# Altium footprint library MLACHP_P.PCBLIB: 129 footprints (part 7 of 9)
Each footprint in its own frame and in the unit in brackets; x right, y up, seen from the top. Pads: shape width x height; smd on the part's side, far side on the other; paste and mask are expansions set on the pad; w line width, h text height; cw(c..) or ccw(c..) is an arc to the next point about the centre after c.
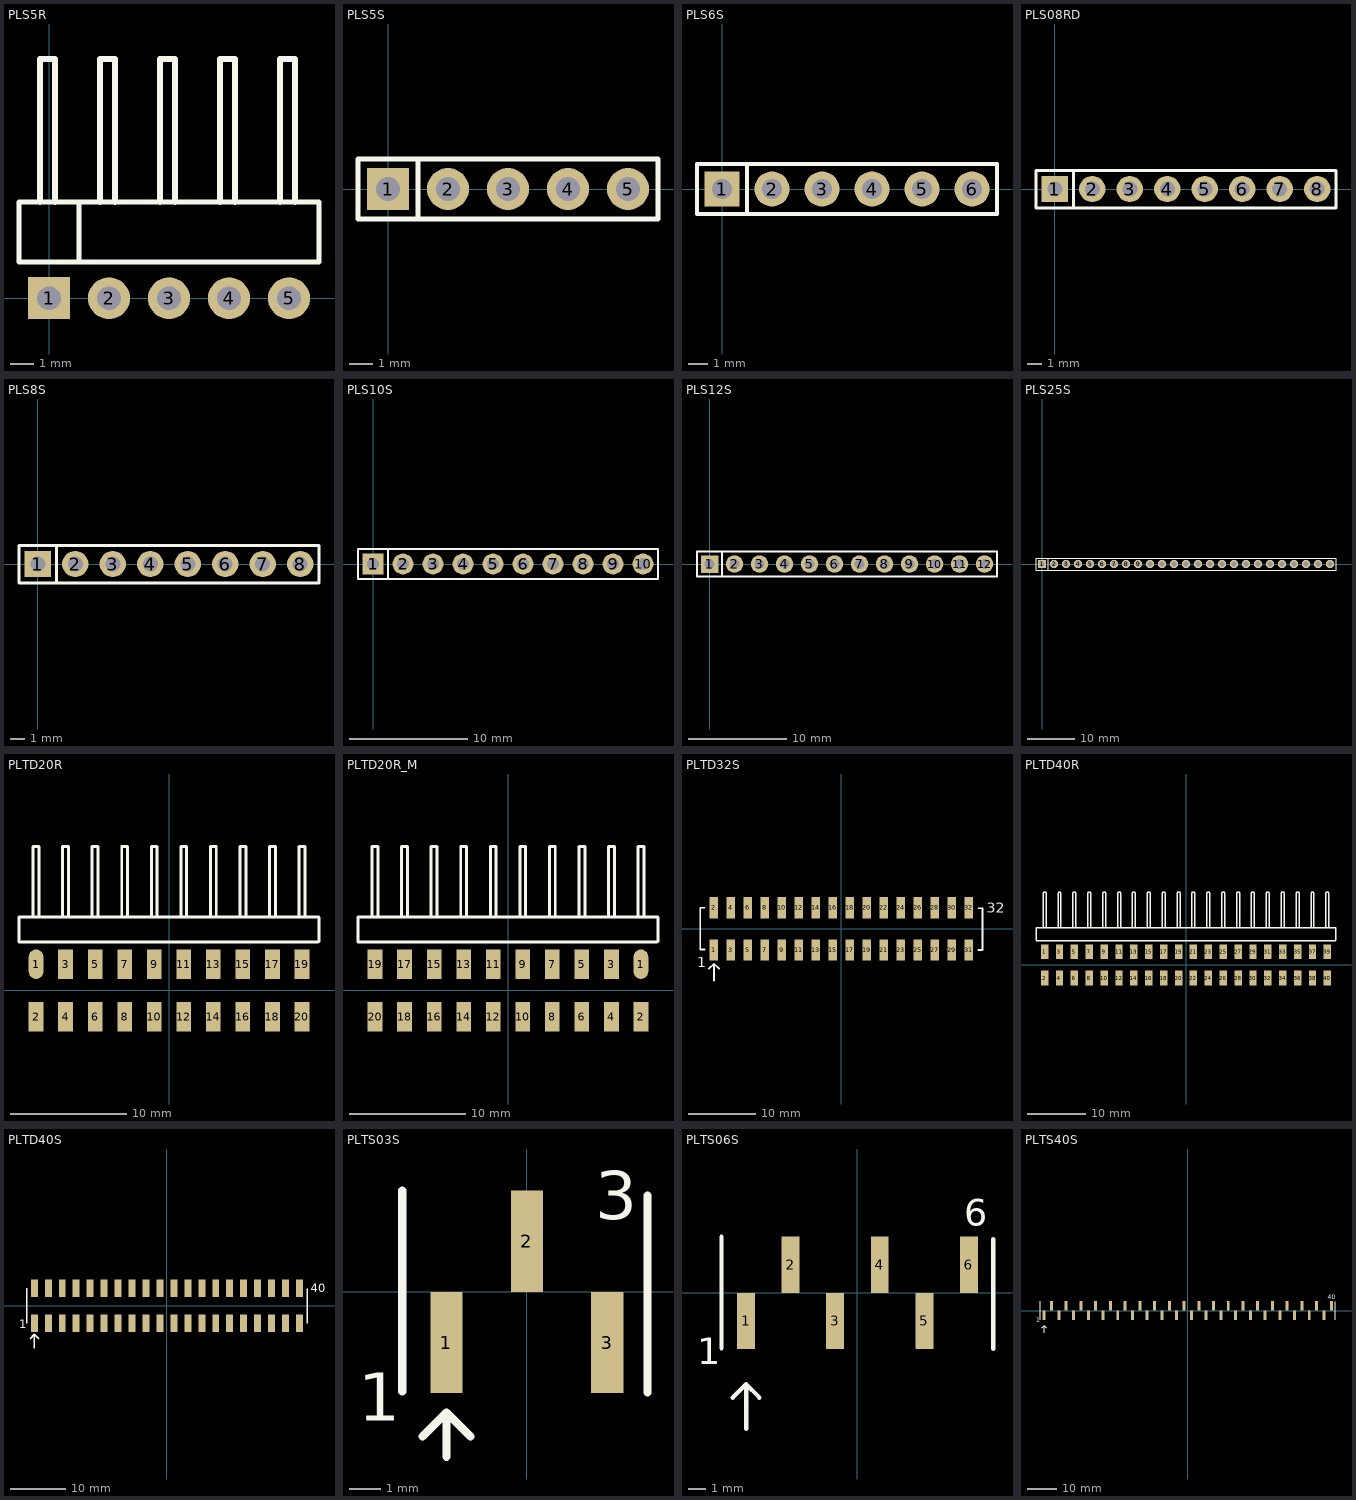
[diagram p6: the footprints below, top view; thin cyan lines are the x and y axes]

## PLS5R [mil]
pads (5):
  rect 70x70 hole 39.37: 1(0,0)
  round 70 hole 39.37: 2(100,0) 3(200,0) 4(300,0) 5(400,0)
TopOverlay:
  lines w8: 50,60.24 50,160.24 ; -50,60.24 450,60.24 450,160.24 -50,160.24 -50,60.24
  lines w9.84: -15,160.24 -15,398.94 10,398.94 10,160.24 ; 85,160.24 85,398.94 110,398.94 110,160.24 ; 185,160.24 185,398.94 210,398.94 210,160.24 ; 285,160.24 285,398.94 310,398.94 310,160.24 ; 385,160.24 385,398.94 410,398.94 410,160.24
3D body: height 61.81, standoff -118.11, extent 387.4,-12.6 412.6,12.6
3D body: height 61.81, standoff 36.61, extent 387.4,-12.6 412.6,395.28
3D body: height 61.81, standoff -118.11, extent 287.4,-12.6 312.6,12.6
3D body: height 61.81, standoff 36.61, extent 287.4,-12.6 312.6,395.28
3D body: height 61.81, standoff 36.61, extent -12.6,-12.6 12.6,395.28
3D body: height 98.43, standoff 0, extent -50,59.06 450,159.45
3D body: height 61.81, standoff -118.11, extent -12.6,-12.6 12.6,12.6
3D body: height 61.81, standoff -118.11, extent 87.4,-12.6 112.6,12.6
3D body: height 61.81, standoff 36.61, extent 87.4,-12.6 112.6,395.28
3D body: height 61.81, standoff -118.11, extent 187.4,-12.6 212.6,12.6
3D body: height 61.81, standoff 36.61, extent 187.4,-12.6 212.6,395.28

## PLS5S [mil]
pads (5):
  rect 70x70 hole 40: 1(0,0)
  round 70 hole 40: 2(100,0) 3(200,0) 4(300,0) 5(400,0)
TopOverlay:
  lines w8: 50,-50 50,50 ; -50,-50 450,-50 450,50 -50,50 -50,-50
3D body: height 336.22, standoff -118.11, extent 387.4,-12.6 412.6,12.6
3D body: height 336.22, standoff -118.11, extent 287.4,-12.6 312.6,12.6
3D body: height 336.22, standoff -118.11, extent 187.4,-12.6 212.6,12.6
3D body: height 336.22, standoff -118.11, extent 87.4,-12.6 112.6,12.6
3D body: height 336.22, standoff -118.11, extent -12.6,-12.6 12.6,12.6
3D body: height 100, standoff 0, extent -50,-50 450,50

## PLS6S [mil]
pads (6):
  rect 70x70 hole 40: 1(0,0)
  round 70 hole 40: 2(100,0) 3(200,0) 4(300,0) 5(400,0) 6(500,0)
TopOverlay:
  lines w8: 50,-50 50,50 ; -50,-50 550,-50 550,50 -50,50 -50,-50
3D body: height 336.22, standoff -118.11, extent 387.4,-12.6 412.6,12.6
3D body: height 336.22, standoff -118.11, extent 287.4,-12.6 312.6,12.6
3D body: height 336.22, standoff -118.11, extent 187.4,-12.6 212.6,12.6
3D body: height 336.22, standoff -118.11, extent 87.4,-12.6 112.6,12.6
3D body: height 336.22, standoff -118.11, extent -12.6,-12.6 12.6,12.6
3D body: height 336.22, standoff -118.11, extent 487.4,-12.6 512.6,12.6
3D body: height 100, standoff 0, extent -50,-50 550,50

## PLS08RD [mil]
pads (8):
  rect 70x70 hole 40: 1(0,0)
  round 70 hole 40: 2(100,0) 3(200,0) 4(300,0) 5(400,0) 6(500,0) 7(600,0) 8(700,0)
TopOverlay:
  lines w8: 50,-50 50,50 ; -50,-50 -50,50 750,50 750,-50 -50,-50
3D body: height 61.81, standoff 36.61, extent 687.4,-12.6 712.6,395.28
3D body: height 61.81, standoff -118.11, extent 687.4,-12.6 712.6,12.6
3D body: height 61.81, standoff 36.61, extent 587.4,-12.6 612.6,395.28
3D body: height 61.81, standoff -118.11, extent 587.4,-12.6 612.6,12.6
3D body: height 61.81, standoff 36.61, extent 487.4,-12.6 512.6,395.28
3D body: height 61.81, standoff -118.11, extent 487.4,-12.6 512.6,12.6
3D body: height 61.81, standoff 36.61, extent 387.4,-12.6 412.6,395.28
3D body: height 61.81, standoff -118.11, extent 387.4,-12.6 412.6,12.6
3D body: height 61.81, standoff 36.61, extent 287.4,-12.6 312.6,395.28
3D body: height 61.81, standoff -118.11, extent 287.4,-12.6 312.6,12.6
3D body: height 61.81, standoff 36.61, extent 187.4,-12.6 212.6,395.28
3D body: height 61.81, standoff -118.11, extent 187.4,-12.6 212.6,12.6
3D body: height 61.81, standoff 36.61, extent 87.4,-12.6 112.6,395.28
3D body: height 61.81, standoff -118.11, extent 87.4,-12.6 112.6,12.6
3D body: height 61.81, standoff -118.11, extent -12.6,-12.6 12.6,12.6
3D body: height 98.43, standoff 0, extent -50,59.06 750,159.45
3D body: height 61.81, standoff 36.61, extent -12.6,-12.6 12.6,395.28

## PLS8S [mil]
pads (8):
  rect 70x70 hole 40: 1(0,0)
  round 70 hole 40: 2(100,0) 3(200,0) 4(300,0) 5(400,0) 6(500,0) 7(600,0) 8(700,0)
TopOverlay:
  lines w8: 50,-50 50,50 ; -50,-50 750,-50 750,50 -50,50 -50,-50
3D body: height 336.22, standoff -118.11, extent 387.4,-12.6 412.6,12.6
3D body: height 336.22, standoff -118.11, extent 287.4,-12.6 312.6,12.6
3D body: height 336.22, standoff -118.11, extent 187.4,-12.6 212.6,12.6
3D body: height 336.22, standoff -118.11, extent 87.4,-12.6 112.6,12.6
3D body: height 336.22, standoff -118.11, extent -12.6,-12.6 12.6,12.6
3D body: height 100, standoff 0, extent -50,-50 750,50
3D body: height 336.22, standoff -118.11, extent 487.4,-12.6 512.6,12.6
3D body: height 336.22, standoff -118.11, extent 587.4,-12.6 612.6,12.6
3D body: height 336.22, standoff -118.11, extent 687.4,-12.6 712.6,12.6

## PLS10S [mil]
pads (10):
  rect 70x70 hole 40: 1(0,0)
  round 70 hole 40: 2(100,0) 3(200,0) 4(300,0) 5(400,0) 6(500,0) 7(600,0) 8(700,0) 9(800,0) 10(900,0)
TopOverlay:
  lines w8: 50,-50 50,50 ; -50,-50 950,-50 950,50 -50,50 -50,-50
3D body: height 336.22, standoff -118.11, extent 387.4,-12.6 412.6,12.6
3D body: height 336.22, standoff -118.11, extent 287.4,-12.6 312.6,12.6
3D body: height 336.22, standoff -118.11, extent 187.4,-12.6 212.6,12.6
3D body: height 336.22, standoff -118.11, extent 87.4,-12.6 112.6,12.6
3D body: height 336.22, standoff -118.11, extent -12.6,-12.6 12.6,12.6
3D body: height 336.22, standoff -118.11, extent 487.4,-12.6 512.6,12.6
3D body: height 336.22, standoff -118.11, extent 587.4,-12.6 612.6,12.6
3D body: height 336.22, standoff -118.11, extent 687.4,-12.6 712.6,12.6
3D body: height 336.22, standoff -118.11, extent 787.4,-12.6 812.6,12.6
3D body: height 336.22, standoff -118.11, extent 887.4,-12.6 912.6,12.6
3D body: height 100, standoff 0, extent -50,-50 950,50

## PLS12S [mil]
pads (12):
  rect 70x70 hole 40: 1(0,0)
  round 70 hole 40: 2(100,0) 3(200,0) 4(300,0) 5(400,0) 6(500,0) 7(600,0) 8(700,0) 9(800,0) 10(900,0) 11(1000,0) 12(1100,0)
TopOverlay:
  lines w8: 50,-50 50,50 ; -50,-50 1150,-50 1150,50 -50,50 -50,-50
3D body: height 336.22, standoff -118.11, extent 387.4,-12.6 412.6,12.6
3D body: height 336.22, standoff -118.11, extent 287.4,-12.6 312.6,12.6
3D body: height 336.22, standoff -118.11, extent 187.4,-12.6 212.6,12.6
3D body: height 336.22, standoff -118.11, extent 87.4,-12.6 112.6,12.6
3D body: height 336.22, standoff -118.11, extent -12.6,-12.6 12.6,12.6
3D body: height 336.22, standoff -118.11, extent 487.4,-12.6 512.6,12.6
3D body: height 336.22, standoff -118.11, extent 587.4,-12.6 612.6,12.6
3D body: height 336.22, standoff -118.11, extent 687.4,-12.6 712.6,12.6
3D body: height 336.22, standoff -118.11, extent 787.4,-12.6 812.6,12.6
3D body: height 336.22, standoff -118.11, extent 887.4,-12.6 912.6,12.6
3D body: height 336.22, standoff -118.11, extent 987.4,-12.6 1012.6,12.6
3D body: height 336.22, standoff -118.11, extent 1087.4,-12.6 1112.6,12.6
3D body: height 100, standoff 0, extent -50,-50 1150,50

## PLS25S [mil]
pads (25):
  rect 70x70 hole 40: 1(0,0)
  round 70 hole 40: 2(100,0) 3(200,0) 4(300,0) 5(400,0) 6(500,0) 7(600,0) 8(700,0) 9(800,0) 10(900,0) 11(1000,0) 12(1100,0) 13(1200,0) 14(1300,0) 15(1400,0) 16(1500,0) 17(1600,0) 18(1700,0) 19(1800,0) 20(1900,0) 21(2000,0) 22(2100,0) 23(2200,0) 24(2300,0) 25(2400,0)
TopOverlay:
  lines w8: 50,-50 50,50 ; -50,-50 2450,-50 2450,50 -50,50 -50,-50
3D body: height 336.22, standoff -118.11, extent 387.4,-12.6 412.6,12.6
3D body: height 336.22, standoff -118.11, extent 287.4,-12.6 312.6,12.6
3D body: height 336.22, standoff -118.11, extent 187.4,-12.6 212.6,12.6
3D body: height 336.22, standoff -118.11, extent 87.4,-12.6 112.6,12.6
3D body: height 336.22, standoff -118.11, extent -12.6,-12.6 12.6,12.6
3D body: height 336.22, standoff -118.11, extent 487.4,-12.6 512.6,12.6
3D body: height 336.22, standoff -118.11, extent 587.4,-12.6 612.6,12.6
3D body: height 336.22, standoff -118.11, extent 687.4,-12.6 712.6,12.6
3D body: height 336.22, standoff -118.11, extent 787.4,-12.6 812.6,12.6
3D body: height 336.22, standoff -118.11, extent 887.4,-12.6 912.6,12.6
3D body: height 336.22, standoff -118.11, extent 987.4,-12.6 1012.6,12.6
3D body: height 336.22, standoff -118.11, extent 1087.4,-12.6 1112.6,12.6
3D body: height 336.22, standoff -118.11, extent 1187.4,-12.6 1212.6,12.6
3D body: height 336.22, standoff -118.11, extent 1287.4,-12.6 1312.6,12.6
3D body: height 336.22, standoff -118.11, extent 1387.4,-12.6 1412.6,12.6
3D body: height 336.22, standoff -118.11, extent 1487.4,-12.6 1512.6,12.6
3D body: height 336.22, standoff -118.11, extent 1587.4,-12.6 1612.6,12.6
3D body: height 336.22, standoff -118.11, extent 1687.4,-12.6 1712.6,12.6
3D body: height 336.22, standoff -118.11, extent 1787.4,-12.6 1812.6,12.6
3D body: height 336.22, standoff -118.11, extent 1887.4,-12.6 1912.6,12.6
3D body: height 336.22, standoff -118.11, extent 1987.4,-12.6 2012.6,12.6
3D body: height 336.22, standoff -118.11, extent 2087.4,-12.6 2112.6,12.6
3D body: height 336.22, standoff -118.11, extent 2187.4,-12.6 2212.6,12.6
3D body: height 336.22, standoff -118.11, extent 2287.4,-12.6 2312.6,12.6
3D body: height 336.22, standoff -118.11, extent 2387.4,-12.6 2412.6,12.6
3D body: height 100, standoff 0, extent -50,-50 2450,50

## PLTD20R [mm]
pads (20):
  oval 1.27x2.54 smd: 1(-11.43,2.25)
  rect 1.27x2.54 smd: 2(-11.43,-2.25) 3(-8.89,2.25) 4(-8.89,-2.25) 5(-6.35,2.25) 6(-6.35,-2.25) 7(-3.81,2.25) 8(-3.81,-2.25) 9(-1.27,2.25) 10(-1.27,-2.25) 11(1.27,2.25) 12(1.27,-2.25) 13(3.81,2.25) 14(3.81,-2.25) 15(6.35,2.25) 16(6.35,-2.25) 17(8.89,2.25) 18(8.89,-2.25) 19(11.43,2.25) 20(11.43,-2.25)
TopOverlay:
  lines w0.254: -12.9,4.158 12.827,4.158 ; -12.9,4.191 -12.9,6.3 12.877,6.3 12.9,6.277 12.9,4.191 ; -11.684,6.4 -11.684,12.35 ; -11.684,12.355 -11.176,12.355 ; -11.176,6.4 -11.176,12.35 ; -9.144,6.4 -9.144,12.35 ; -9.144,12.355 -8.636,12.355 ; -8.636,6.4 -8.636,12.35 ; -6.604,6.4 -6.604,12.35 ; -6.604,12.355 -6.096,12.355 ; -6.096,6.4 -6.096,12.35 ; -4.064,6.4 -4.064,12.35 ; -4.064,12.355 -3.556,12.355 ; -3.556,6.4 -3.556,12.35 ; -1.524,6.4 -1.524,12.35 ; -1.524,12.355 -1.016,12.355 ; -1.016,6.4 -1.016,12.35 ; 1.016,6.4 1.016,12.35 ; 1.016,12.355 1.524,12.355 ; 1.524,6.4 1.524,12.35 ; 3.556,6.4 3.556,12.35 ; 3.556,12.355 4.064,12.355 ; 4.064,6.4 4.064,12.35 ; 6.096,6.4 6.096,12.35 ; 6.096,12.355 6.604,12.355 ; 6.604,6.4 6.604,12.35 ; 8.636,6.4 8.636,12.35 ; 8.636,12.355 9.144,12.355 ; 9.144,6.4 9.144,12.35 ; 11.176,6.4 11.176,12.35 ; 11.176,12.355 11.684,12.355 ; 11.684,6.4 11.684,12.35
3D body: height 5.08, standoff 0, extent -12.827,3.65 12.7,6.2
3D body: height 4.13, standoff 0, extent -11.73,-1.65 -11.13,-1
3D body: height 4.13, standoff 3.49, extent -11.73,-1.65 -11.13,12.05
3D body: height 0.64, standoff 0, extent -11.73,-3.55 -11.13,-1
3D body: height 1.59, standoff 0, extent -11.73,3 -11.13,3.65
3D body: height 0.64, standoff 0, extent -11.73,1 -11.13,3.65
3D body: height 1.59, standoff 0.95, extent -11.73,3 -11.13,12.05
3D body: height 4.13, standoff 0, extent -9.19,-1.65 -8.59,-1
3D body: height 4.13, standoff 3.49, extent -9.19,-1.65 -8.59,12.05
3D body: height 0.64, standoff 0, extent -9.19,-3.55 -8.59,-1
3D body: height 1.59, standoff 0, extent -9.19,3 -8.59,3.65
3D body: height 0.64, standoff 0, extent -9.19,1 -8.59,3.65
3D body: height 1.59, standoff 0.95, extent -9.19,3 -8.59,12.05
3D body: height 4.13, standoff 0, extent -6.65,-1.65 -6.05,-1
3D body: height 4.13, standoff 3.49, extent -6.65,-1.65 -6.05,12.05
3D body: height 0.64, standoff 0, extent -6.65,-3.55 -6.05,-1
3D body: height 1.59, standoff 0, extent -6.65,3 -6.05,3.65
3D body: height 0.64, standoff 0, extent -6.65,1 -6.05,3.65
3D body: height 1.59, standoff 0.95, extent -6.65,3 -6.05,12.05
3D body: height 4.13, standoff 0, extent -4.11,-1.65 -3.51,-1
3D body: height 4.13, standoff 3.49, extent -4.11,-1.65 -3.51,12.05
3D body: height 0.64, standoff 0, extent -4.11,-3.55 -3.51,-1
3D body: height 1.59, standoff 0, extent -4.11,3 -3.51,3.65
3D body: height 0.64, standoff 0, extent -4.11,1 -3.51,3.65
3D body: height 1.59, standoff 0.95, extent -4.11,3 -3.51,12.05
3D body: height 4.13, standoff 0, extent -1.57,-1.65 -0.97,-1
3D body: height 4.13, standoff 3.49, extent -1.57,-1.65 -0.97,12.05
3D body: height 0.64, standoff 0, extent -1.57,-3.55 -0.97,-1
3D body: height 1.59, standoff 0, extent -1.57,3 -0.97,3.65
3D body: height 0.64, standoff 0, extent -1.57,1 -0.97,3.65
3D body: height 1.59, standoff 0.95, extent -1.57,3 -0.97,12.05
3D body: height 4.13, standoff 0, extent 0.97,-1.65 1.57,-1
3D body: height 4.13, standoff 3.49, extent 0.97,-1.65 1.57,12.05
3D body: height 0.64, standoff 0, extent 0.97,-3.55 1.57,-1
3D body: height 1.59, standoff 0, extent 0.97,3 1.57,3.65
3D body: height 0.64, standoff 0, extent 0.97,1 1.57,3.65
3D body: height 1.59, standoff 0.95, extent 0.97,3 1.57,12.05
3D body: height 4.13, standoff 0, extent 3.51,-1.65 4.11,-1
3D body: height 4.13, standoff 3.49, extent 3.51,-1.65 4.11,12.05
3D body: height 0.64, standoff 0, extent 3.51,-3.55 4.11,-1
3D body: height 1.59, standoff 0, extent 3.51,3 4.11,3.65
3D body: height 0.64, standoff 0, extent 3.51,1 4.11,3.65
3D body: height 1.59, standoff 0.95, extent 3.51,3 4.11,12.05
3D body: height 4.13, standoff 0, extent 6.05,-1.65 6.65,-1
3D body: height 4.13, standoff 3.49, extent 6.05,-1.65 6.65,12.05
3D body: height 0.64, standoff 0, extent 6.05,-3.55 6.65,-1
3D body: height 1.59, standoff 0, extent 6.05,3 6.65,3.65
3D body: height 0.64, standoff 0, extent 6.05,1 6.65,3.65
3D body: height 1.59, standoff 0.95, extent 6.05,3 6.65,12.05
3D body: height 4.13, standoff 0, extent 8.59,-1.65 9.19,-1
3D body: height 4.13, standoff 3.49, extent 8.59,-1.65 9.19,12.05
3D body: height 0.64, standoff 0, extent 8.59,-3.55 9.19,-1
3D body: height 1.59, standoff 0, extent 8.59,3 9.19,3.65
3D body: height 0.64, standoff 0, extent 8.59,1 9.19,3.65
3D body: height 1.59, standoff 0.95, extent 8.59,3 9.19,12.05
3D body: height 4.13, standoff 0, extent 11.13,-1.65 11.73,-1
3D body: height 4.13, standoff 3.49, extent 11.13,-1.65 11.73,12.05
3D body: height 0.64, standoff 0, extent 11.13,-3.55 11.73,-1
3D body: height 1.59, standoff 0, extent 11.13,3 11.73,3.65
3D body: height 0.64, standoff 0, extent 11.13,1 11.73,3.65
3D body: height 1.59, standoff 0.95, extent 11.13,3 11.73,12.05

## PLTD20R_M [mm]
pads (20):
  oval 1.27x2.54 smd: 1(11.43,2.25)
  rect 1.27x2.54 smd: 2(11.43,-2.25) 3(8.89,2.25) 4(8.89,-2.25) 5(6.35,2.25) 6(6.35,-2.25) 7(3.81,2.25) 8(3.81,-2.25) 9(1.27,2.25) 10(1.27,-2.25) 11(-1.27,2.25) 12(-1.27,-2.25) 13(-3.81,2.25) 14(-3.81,-2.25) 15(-6.35,2.25) 16(-6.35,-2.25) 17(-8.89,2.25) 18(-8.89,-2.25) 19(-11.43,2.25) 20(-11.43,-2.25)
TopOverlay:
  lines w0.254: -12.9,4.158 12.827,4.158 ; -12.9,4.191 -12.9,6.3 12.877,6.3 12.9,6.277 12.9,4.191 ; -11.684,6.4 -11.684,12.35 ; -11.684,12.355 -11.176,12.355 ; -11.176,6.4 -11.176,12.35 ; -9.144,6.4 -9.144,12.35 ; -9.144,12.355 -8.636,12.355 ; -8.636,6.4 -8.636,12.35 ; -6.604,6.4 -6.604,12.35 ; -6.604,12.355 -6.096,12.355 ; -6.096,6.4 -6.096,12.35 ; -4.064,6.4 -4.064,12.35 ; -4.064,12.355 -3.556,12.355 ; -3.556,6.4 -3.556,12.35 ; -1.524,6.4 -1.524,12.35 ; -1.524,12.355 -1.016,12.355 ; -1.016,6.4 -1.016,12.35 ; 1.016,6.4 1.016,12.35 ; 1.016,12.355 1.524,12.355 ; 1.524,6.4 1.524,12.35 ; 3.556,6.4 3.556,12.35 ; 3.556,12.355 4.064,12.355 ; 4.064,6.4 4.064,12.35 ; 6.096,6.4 6.096,12.35 ; 6.096,12.355 6.604,12.355 ; 6.604,6.4 6.604,12.35 ; 8.636,6.4 8.636,12.35 ; 8.636,12.355 9.144,12.355 ; 9.144,6.4 9.144,12.35 ; 11.176,6.4 11.176,12.35 ; 11.176,12.355 11.684,12.355 ; 11.684,6.4 11.684,12.35
3D body: height 5.08, standoff 0, extent -12.827,3.65 12.7,6.2
3D body: height 4.13, standoff 0, extent -11.73,-1.65 -11.13,-1
3D body: height 4.13, standoff 3.49, extent -11.73,-1.65 -11.13,12.05
3D body: height 0.64, standoff 0, extent -11.73,-3.55 -11.13,-1
3D body: height 1.59, standoff 0, extent -11.73,3 -11.13,3.65
3D body: height 0.64, standoff 0, extent -11.73,1 -11.13,3.65
3D body: height 1.59, standoff 0.95, extent -11.73,3 -11.13,12.05
3D body: height 4.13, standoff 0, extent -9.19,-1.65 -8.59,-1
3D body: height 4.13, standoff 3.49, extent -9.19,-1.65 -8.59,12.05
3D body: height 0.64, standoff 0, extent -9.19,-3.55 -8.59,-1
3D body: height 1.59, standoff 0, extent -9.19,3 -8.59,3.65
3D body: height 0.64, standoff 0, extent -9.19,1 -8.59,3.65
3D body: height 1.59, standoff 0.95, extent -9.19,3 -8.59,12.05
3D body: height 4.13, standoff 0, extent -6.65,-1.65 -6.05,-1
3D body: height 4.13, standoff 3.49, extent -6.65,-1.65 -6.05,12.05
3D body: height 0.64, standoff 0, extent -6.65,-3.55 -6.05,-1
3D body: height 1.59, standoff 0, extent -6.65,3 -6.05,3.65
3D body: height 0.64, standoff 0, extent -6.65,1 -6.05,3.65
3D body: height 1.59, standoff 0.95, extent -6.65,3 -6.05,12.05
3D body: height 4.13, standoff 0, extent -4.11,-1.65 -3.51,-1
3D body: height 4.13, standoff 3.49, extent -4.11,-1.65 -3.51,12.05
3D body: height 0.64, standoff 0, extent -4.11,-3.55 -3.51,-1
3D body: height 1.59, standoff 0, extent -4.11,3 -3.51,3.65
3D body: height 0.64, standoff 0, extent -4.11,1 -3.51,3.65
3D body: height 1.59, standoff 0.95, extent -4.11,3 -3.51,12.05
3D body: height 4.13, standoff 0, extent -1.57,-1.65 -0.97,-1
3D body: height 4.13, standoff 3.49, extent -1.57,-1.65 -0.97,12.05
3D body: height 0.64, standoff 0, extent -1.57,-3.55 -0.97,-1
3D body: height 1.59, standoff 0, extent -1.57,3 -0.97,3.65
3D body: height 0.64, standoff 0, extent -1.57,1 -0.97,3.65
3D body: height 1.59, standoff 0.95, extent -1.57,3 -0.97,12.05
3D body: height 4.13, standoff 0, extent 0.97,-1.65 1.57,-1
3D body: height 4.13, standoff 3.49, extent 0.97,-1.65 1.57,12.05
3D body: height 0.64, standoff 0, extent 0.97,-3.55 1.57,-1
3D body: height 1.59, standoff 0, extent 0.97,3 1.57,3.65
3D body: height 0.64, standoff 0, extent 0.97,1 1.57,3.65
3D body: height 1.59, standoff 0.95, extent 0.97,3 1.57,12.05
3D body: height 4.13, standoff 0, extent 3.51,-1.65 4.11,-1
3D body: height 4.13, standoff 3.49, extent 3.51,-1.65 4.11,12.05
3D body: height 0.64, standoff 0, extent 3.51,-3.55 4.11,-1
3D body: height 1.59, standoff 0, extent 3.51,3 4.11,3.65
3D body: height 0.64, standoff 0, extent 3.51,1 4.11,3.65
3D body: height 1.59, standoff 0.95, extent 3.51,3 4.11,12.05
3D body: height 4.13, standoff 0, extent 6.05,-1.65 6.65,-1
3D body: height 4.13, standoff 3.49, extent 6.05,-1.65 6.65,12.05
3D body: height 0.64, standoff 0, extent 6.05,-3.55 6.65,-1
3D body: height 1.59, standoff 0, extent 6.05,3 6.65,3.65
3D body: height 0.64, standoff 0, extent 6.05,1 6.65,3.65
3D body: height 1.59, standoff 0.95, extent 6.05,3 6.65,12.05
3D body: height 4.13, standoff 0, extent 8.59,-1.65 9.19,-1
3D body: height 4.13, standoff 3.49, extent 8.59,-1.65 9.19,12.05
3D body: height 0.64, standoff 0, extent 8.59,-3.55 9.19,-1
3D body: height 1.59, standoff 0, extent 8.59,3 9.19,3.65
3D body: height 0.64, standoff 0, extent 8.59,1 9.19,3.65
3D body: height 1.59, standoff 0.95, extent 8.59,3 9.19,12.05
3D body: height 4.13, standoff 0, extent 11.13,-1.65 11.73,-1
3D body: height 4.13, standoff 3.49, extent 11.13,-1.65 11.73,12.05
3D body: height 0.64, standoff 0, extent 11.13,-3.55 11.73,-1
3D body: height 1.59, standoff 0, extent 11.13,3 11.73,3.65
3D body: height 0.64, standoff 0, extent 11.13,1 11.73,3.65
3D body: height 1.59, standoff 0.95, extent 11.13,3 11.73,12.05

## PLTD32S [mm]
pads (32):
  rect 1.27x3.175 smd: 1(-19.05,-3.15) 2(-19.05,3.15) 3(-16.51,-3.15) 4(-16.51,3.15) 5(-13.97,-3.15) 6(-13.97,3.15) 7(-11.43,-3.15) 8(-11.43,3.15) 9(-8.89,-3.15) 10(-8.89,3.15) 11(-6.35,-3.15) 12(-6.35,3.15) 13(-3.81,-3.15) 14(-3.81,3.15) 15(-1.27,-3.15) 16(-1.27,3.15) 17(1.27,-3.15) 18(1.27,3.15) 19(3.81,-3.15) 20(3.81,3.15) 21(6.35,-3.15) 22(6.35,3.15) 23(8.89,-3.15) 24(8.89,3.15) 25(11.43,-3.15) 26(11.43,3.15) 27(13.97,-3.15) 28(13.97,3.15) 29(16.51,-3.15) 30(16.51,3.15) 31(19.05,-3.15) 32(19.05,3.15)
TopOverlay:
  lines w0.254: -20.447,-3.073 -21.082,-3.073 -21.082,3.15 -20.447,3.15 ; -19.812,-5.969 -19.05,-5.207 ; -19.05,-7.747 -19.05,-5.207 ; -18.288,-5.969 -19.05,-5.207 ; 20.447,-3.15 21.082,-3.15 21.082,3.073 20.447,3.073
  text "1" at -21.59,-5.715 h1.52
  text "32" at 21.717,2.413 h1.52

## PLTD40R [mm]
pads (40):
  rect 1.27x2.54 smd: 1(-24.13,2.25) 2(-24.13,-2.25) 3(-21.59,2.25) 4(-21.59,-2.25) 5(-19.05,2.25) 6(-19.05,-2.25) 7(-16.51,2.25) 8(-16.51,-2.25) 9(-13.97,2.25) 10(-13.97,-2.25) 11(-11.43,2.25) 12(-11.43,-2.25) 13(-8.89,2.25) 14(-8.89,-2.25) 15(-6.35,2.25) 16(-6.35,-2.25) 17(-3.81,2.25) 18(-3.81,-2.25) 19(-1.27,2.25) 20(-1.27,-2.25) 21(1.27,2.25) 22(1.27,-2.25) 23(3.81,2.25) 24(3.81,-2.25) 25(6.35,2.25) 26(6.35,-2.25) 27(8.89,2.25) 28(8.89,-2.25) 29(11.43,2.25) 30(11.43,-2.25) 31(13.97,2.25) 32(13.97,-2.25) 33(16.51,2.25) 34(16.51,-2.25) 35(19.05,2.25) 36(19.05,-2.25) 37(21.59,2.25) 38(21.59,-2.25) 39(24.13,2.25) 40(24.13,-2.25)
TopOverlay:
  lines w0.254: -25.6,4.158 25.6,4.158 ; -25.6,4.191 -25.6,6.3 25.55,6.3 25.6,6.25 25.6,4.191 ; -24.384,6.4 -24.384,12.35 ; -24.384,12.355 -23.876,12.355 ; -23.876,6.4 -23.876,12.35 ; -21.844,6.4 -21.844,12.35 ; -21.844,12.355 -21.336,12.355 ; -21.336,6.4 -21.336,12.35 ; -19.304,6.4 -19.304,12.35 ; -19.304,12.355 -18.796,12.355 ; -18.796,6.4 -18.796,12.35 ; -16.764,6.4 -16.764,12.35 ; -16.764,12.355 -16.256,12.355 ; -16.256,6.4 -16.256,12.35 ; -14.224,6.4 -14.224,12.35 ; -14.224,12.355 -13.716,12.355 ; -13.716,6.4 -13.716,12.35 ; -11.684,6.4 -11.684,12.35 ; -11.684,12.355 -11.176,12.355 ; -11.176,6.4 -11.176,12.35 ; -9.144,6.4 -9.144,12.35 ; -9.144,12.355 -8.636,12.355 ; -8.636,6.4 -8.636,12.35 ; -6.604,6.4 -6.604,12.35 ; -6.604,12.355 -6.096,12.355 ; -6.096,6.4 -6.096,12.35 ; -4.064,6.4 -4.064,12.35 ; -4.064,12.355 -3.556,12.355 ; -3.556,6.4 -3.556,12.35 ; -1.524,6.4 -1.524,12.35 ; -1.524,12.355 -1.016,12.355 ; -1.016,6.4 -1.016,12.35 ; 1.016,6.4 1.016,12.35 ; 1.016,12.355 1.524,12.355 ; 1.524,6.4 1.524,12.35 ; 3.556,6.4 3.556,12.35 ; 3.556,12.355 4.064,12.355 ; 4.064,6.4 4.064,12.35 ; 6.096,6.4 6.096,12.35 ; 6.096,12.355 6.604,12.355 ; 6.604,6.4 6.604,12.35 ; 8.636,6.4 8.636,12.35 ; 8.636,12.355 9.144,12.355 ; 9.144,6.4 9.144,12.35 ; 11.176,6.4 11.176,12.35 ; 11.176,12.355 11.684,12.355 ; 11.684,6.4 11.684,12.35 ; 13.716,6.4 13.716,12.35 ; 13.716,12.355 14.224,12.355 ; 14.224,6.4 14.224,12.35 ; 16.256,6.4 16.256,12.35 ; 16.256,12.355 16.764,12.355 ; 16.764,6.4 16.764,12.35 ; 18.796,6.4 18.796,12.35 ; 18.796,12.355 19.304,12.355 ; 19.304,6.4 19.304,12.35 ; 21.336,6.4 21.336,12.35 ; 21.336,12.355 21.844,12.355 ; 21.844,6.4 21.844,12.35 ; 23.876,6.4 23.876,12.35 ; 23.876,12.355 24.384,12.355 ; 24.384,6.4 24.384,12.35
3D body: height 1.59, standoff 0.95, extent 0.97,3 1.57,12.05
3D body: height 5.08, standoff 0, extent -25.4,3.65 25.4,6.2
3D body: height 0.64, standoff 0, extent 0.97,1 1.57,3.65
3D body: height 1.59, standoff 0, extent 0.97,3 1.57,3.65
3D body: height 0.64, standoff 0, extent 0.97,-3.55 1.57,-1
3D body: height 4.13, standoff 3.49, extent 0.97,-1.65 1.57,12.05
3D body: height 4.13, standoff 0, extent 0.97,-1.65 1.57,-1
3D body: height 4.13, standoff 0, extent -24.43,-1.65 -23.83,-1
3D body: height 4.13, standoff 3.49, extent -24.43,-1.65 -23.83,12.05
3D body: height 0.64, standoff 0, extent -24.43,-3.55 -23.83,-1
3D body: height 1.59, standoff 0, extent -24.43,3 -23.83,3.65
3D body: height 0.64, standoff 0, extent -24.43,1 -23.83,3.65
3D body: height 1.59, standoff 0.95, extent -24.43,3 -23.83,12.05
3D body: height 4.13, standoff 0, extent -21.89,-1.65 -21.29,-1
3D body: height 4.13, standoff 3.49, extent -21.89,-1.65 -21.29,12.05
3D body: height 0.64, standoff 0, extent -21.89,-3.55 -21.29,-1
3D body: height 1.59, standoff 0, extent -21.89,3 -21.29,3.65
3D body: height 0.64, standoff 0, extent -21.89,1 -21.29,3.65
3D body: height 1.59, standoff 0.95, extent -21.89,3 -21.29,12.05
3D body: height 4.13, standoff 0, extent -19.35,-1.65 -18.75,-1
3D body: height 4.13, standoff 3.49, extent -19.35,-1.65 -18.75,12.05
3D body: height 0.64, standoff 0, extent -19.35,-3.55 -18.75,-1
3D body: height 1.59, standoff 0, extent -19.35,3 -18.75,3.65
3D body: height 0.64, standoff 0, extent -19.35,1 -18.75,3.65
3D body: height 1.59, standoff 0.95, extent -19.35,3 -18.75,12.05
3D body: height 4.13, standoff 0, extent -16.81,-1.65 -16.21,-1
3D body: height 4.13, standoff 3.49, extent -16.81,-1.65 -16.21,12.05
3D body: height 0.64, standoff 0, extent -16.81,-3.55 -16.21,-1
3D body: height 1.59, standoff 0, extent -16.81,3 -16.21,3.65
3D body: height 0.64, standoff 0, extent -16.81,1 -16.21,3.65
3D body: height 1.59, standoff 0.95, extent -16.81,3 -16.21,12.05
3D body: height 4.13, standoff 0, extent -14.27,-1.65 -13.67,-1
3D body: height 4.13, standoff 3.49, extent -14.27,-1.65 -13.67,12.05
3D body: height 0.64, standoff 0, extent -14.27,-3.55 -13.67,-1
3D body: height 1.59, standoff 0, extent -14.27,3 -13.67,3.65
3D body: height 0.64, standoff 0, extent -14.27,1 -13.67,3.65
3D body: height 1.59, standoff 0.95, extent -14.27,3 -13.67,12.05
3D body: height 4.13, standoff 0, extent -11.73,-1.65 -11.13,-1
3D body: height 4.13, standoff 3.49, extent -11.73,-1.65 -11.13,12.05
3D body: height 0.64, standoff 0, extent -11.73,-3.55 -11.13,-1
3D body: height 1.59, standoff 0, extent -11.73,3 -11.13,3.65
3D body: height 0.64, standoff 0, extent -11.73,1 -11.13,3.65
3D body: height 1.59, standoff 0.95, extent -11.73,3 -11.13,12.05
3D body: height 4.13, standoff 0, extent -9.19,-1.65 -8.59,-1
3D body: height 4.13, standoff 3.49, extent -9.19,-1.65 -8.59,12.05
3D body: height 0.64, standoff 0, extent -9.19,-3.55 -8.59,-1
3D body: height 1.59, standoff 0, extent -9.19,3 -8.59,3.65
3D body: height 0.64, standoff 0, extent -9.19,1 -8.59,3.65
3D body: height 1.59, standoff 0.95, extent -9.19,3 -8.59,12.05
3D body: height 4.13, standoff 0, extent -6.65,-1.65 -6.05,-1
3D body: height 4.13, standoff 3.49, extent -6.65,-1.65 -6.05,12.05
3D body: height 0.64, standoff 0, extent -6.65,-3.55 -6.05,-1
3D body: height 1.59, standoff 0, extent -6.65,3 -6.05,3.65
3D body: height 0.64, standoff 0, extent -6.65,1 -6.05,3.65
3D body: height 1.59, standoff 0.95, extent -6.65,3 -6.05,12.05
3D body: height 4.13, standoff 0, extent -4.11,-1.65 -3.51,-1
3D body: height 4.13, standoff 3.49, extent -4.11,-1.65 -3.51,12.05
3D body: height 0.64, standoff 0, extent -4.11,-3.55 -3.51,-1
3D body: height 1.59, standoff 0, extent -4.11,3 -3.51,3.65
3D body: height 0.64, standoff 0, extent -4.11,1 -3.51,3.65
3D body: height 1.59, standoff 0.95, extent -4.11,3 -3.51,12.05
3D body: height 4.13, standoff 0, extent -1.57,-1.65 -0.97,-1
3D body: height 4.13, standoff 3.49, extent -1.57,-1.65 -0.97,12.05
3D body: height 0.64, standoff 0, extent -1.57,-3.55 -0.97,-1
3D body: height 1.59, standoff 0, extent -1.57,3 -0.97,3.65
3D body: height 0.64, standoff 0, extent -1.57,1 -0.97,3.65
3D body: height 1.59, standoff 0.95, extent -1.57,3 -0.97,12.05
3D body: height 4.13, standoff 0, extent 3.51,-1.65 4.11,-1
3D body: height 4.13, standoff 3.49, extent 3.51,-1.65 4.11,12.05
3D body: height 0.64, standoff 0, extent 3.51,-3.55 4.11,-1
3D body: height 1.59, standoff 0, extent 3.51,3 4.11,3.65
3D body: height 0.64, standoff 0, extent 3.51,1 4.11,3.65
3D body: height 1.59, standoff 0.95, extent 3.51,3 4.11,12.05
3D body: height 4.13, standoff 0, extent 6.05,-1.65 6.65,-1
3D body: height 4.13, standoff 3.49, extent 6.05,-1.65 6.65,12.05
3D body: height 0.64, standoff 0, extent 6.05,-3.55 6.65,-1
3D body: height 1.59, standoff 0, extent 6.05,3 6.65,3.65
3D body: height 0.64, standoff 0, extent 6.05,1 6.65,3.65
3D body: height 1.59, standoff 0.95, extent 6.05,3 6.65,12.05
3D body: height 4.13, standoff 0, extent 8.59,-1.65 9.19,-1
3D body: height 4.13, standoff 3.49, extent 8.59,-1.65 9.19,12.05
3D body: height 0.64, standoff 0, extent 8.59,-3.55 9.19,-1
3D body: height 1.59, standoff 0, extent 8.59,3 9.19,3.65
3D body: height 0.64, standoff 0, extent 8.59,1 9.19,3.65
3D body: height 1.59, standoff 0.95, extent 8.59,3 9.19,12.05
3D body: height 4.13, standoff 0, extent 11.13,-1.65 11.73,-1
3D body: height 4.13, standoff 3.49, extent 11.13,-1.65 11.73,12.05
3D body: height 0.64, standoff 0, extent 11.13,-3.55 11.73,-1
3D body: height 1.59, standoff 0, extent 11.13,3 11.73,3.65
3D body: height 0.64, standoff 0, extent 11.13,1 11.73,3.65
3D body: height 1.59, standoff 0.95, extent 11.13,3 11.73,12.05
3D body: height 4.13, standoff 0, extent 13.67,-1.65 14.27,-1
3D body: height 4.13, standoff 3.49, extent 13.67,-1.65 14.27,12.05
3D body: height 0.64, standoff 0, extent 13.67,-3.55 14.27,-1
3D body: height 1.59, standoff 0, extent 13.67,3 14.27,3.65
3D body: height 0.64, standoff 0, extent 13.67,1 14.27,3.65
3D body: height 1.59, standoff 0.95, extent 13.67,3 14.27,12.05
3D body: height 4.13, standoff 0, extent 16.21,-1.65 16.81,-1
3D body: height 4.13, standoff 3.49, extent 16.21,-1.65 16.81,12.05
3D body: height 0.64, standoff 0, extent 16.21,-3.55 16.81,-1
3D body: height 1.59, standoff 0, extent 16.21,3 16.81,3.65
3D body: height 0.64, standoff 0, extent 16.21,1 16.81,3.65
3D body: height 1.59, standoff 0.95, extent 16.21,3 16.81,12.05
3D body: height 4.13, standoff 0, extent 18.75,-1.65 19.35,-1
3D body: height 4.13, standoff 3.49, extent 18.75,-1.65 19.35,12.05
3D body: height 0.64, standoff 0, extent 18.75,-3.55 19.35,-1
3D body: height 1.59, standoff 0, extent 18.75,3 19.35,3.65
3D body: height 0.64, standoff 0, extent 18.75,1 19.35,3.65
3D body: height 1.59, standoff 0.95, extent 18.75,3 19.35,12.05
3D body: height 4.13, standoff 0, extent 21.29,-1.65 21.89,-1
3D body: height 4.13, standoff 3.49, extent 21.29,-1.65 21.89,12.05
3D body: height 0.64, standoff 0, extent 21.29,-3.55 21.89,-1
3D body: height 1.59, standoff 0, extent 21.29,3 21.89,3.65
3D body: height 0.64, standoff 0, extent 21.29,1 21.89,3.65
3D body: height 1.59, standoff 0.95, extent 21.29,3 21.89,12.05
3D body: height 4.13, standoff 0, extent 23.83,-1.65 24.43,-1
3D body: height 4.13, standoff 3.49, extent 23.83,-1.65 24.43,12.05
3D body: height 0.64, standoff 0, extent 23.83,-3.55 24.43,-1
3D body: height 1.59, standoff 0, extent 23.83,3 24.43,3.65
3D body: height 0.64, standoff 0, extent 23.83,1 24.43,3.65
3D body: height 1.59, standoff 0.95, extent 23.83,3 24.43,12.05

## PLTD40S [mm]
pads (40):
  rect 1.27x3.175 smd: 1(-24.13,-3.15) 2(-24.13,3.15) 3(-21.59,-3.15) 4(-21.59,3.15) 5(-19.05,-3.15) 6(-19.05,3.15) 7(-16.51,-3.15) 8(-16.51,3.15) 9(-13.97,-3.15) 10(-13.97,3.15) 11(-11.43,-3.15) 12(-11.43,3.15) 13(-8.89,-3.15) 14(-8.89,3.15) 15(-6.35,-3.15) 16(-6.35,3.15) 17(-3.81,-3.15) 18(-3.81,3.15) 19(-1.27,-3.15) 20(-1.27,3.15) 21(1.27,-3.15) 22(1.27,3.15) 23(3.81,-3.15) 24(3.81,3.15) 25(6.35,-3.15) 26(6.35,3.15) 27(8.89,-3.15) 28(8.89,3.15) 29(11.43,-3.15) 30(11.43,3.15) 31(13.97,-3.15) 32(13.97,3.15) 33(16.51,-3.15) 34(16.51,3.15) 35(19.05,-3.15) 36(19.05,3.15) 37(21.59,-3.15) 38(21.59,3.15) 39(24.13,-3.15) 40(24.13,3.15)
TopOverlay:
  lines w0.254: -25.527,-3.15 -25.527,3.2 ; -24.892,-5.969 -24.13,-5.207 ; -24.13,-7.747 -24.13,-5.207 ; -23.368,-5.969 -24.13,-5.207 ; 25.527,-3.15 25.527,3.073
  text "1" at -26.924,-4.064 h1.52
  text "40" at 26.162,2.413 h1.52

## PLTS03S [mm]
pads (3):
  rect 1.02x3.2 smd: 1(-2.54,-1.6) 2(0,1.6) 3(2.54,-1.6)
TopOverlay:
  lines w0.254: -3.937,-3.15 -3.937,3.2 ; -3.302,-4.572 -2.54,-3.81 ; -2.54,-5.207 -2.54,-3.81 ; -1.778,-4.572 -2.54,-3.81 ; 3.81,-3.175 3.81,3.048
  text "3" at 2.159,2.286 h1.52
  text "1" at -5.334,-4.064 h1.52
3D body: height 3.5, standoff 0.96, extent -3.81,-1.27 -1.27,1.27
3D body: height 3.5, standoff 0.96, extent -1.27,-1.27 1.27,1.27
3D body: height 3.5, standoff 0.96, extent 1.27,-1.27 3.81,1.27
3D body: height 9.5, standoff 0, extent -2.921,-0.381 -2.159,0.381
3D body: height 0.64, standoff 0, extent -2.921,-2.667 -2.159,0.381
3D body: height 0.64, standoff 0, extent -0.381,-0.381 0.381,2.667
3D body: height 9.5, standoff 0, extent -0.381,-0.381 0.381,0.381
3D body: height 0.64, standoff 0, extent 2.159,-2.667 2.921,0.381
3D body: height 9.5, standoff 0, extent 2.159,-0.381 2.921,0.381

## PLTS06S [mm]
pads (6):
  rect 1.02x3.2 smd: 1(-6.35,-1.6) 2(-3.81,1.6) 3(-1.27,-1.6) 4(1.27,1.6) 5(3.81,-1.6) 6(6.35,1.6)
TopOverlay:
  lines w0.254: -7.747,-3.15 -7.747,3.2 ; -7.112,-5.969 -6.35,-5.207 ; -6.35,-7.747 -6.35,-5.207 ; -5.588,-5.969 -6.35,-5.207 ; 7.747,-3.175 7.747,3.048
  text "6" at 6.096,3.81 h1.52
  text "1" at -9.144,-4.064 h1.52
3D body: height 3.5, standoff 0.96, extent 5.08,-1.27 7.62,1.27
3D body: height 3.5, standoff 0.96, extent -7.62,-1.27 -5.08,1.27
3D body: height 3.5, standoff 0.96, extent -5.08,-1.27 -2.54,1.27
3D body: height 3.5, standoff 0.96, extent -2.54,-1.27 0,1.27
3D body: height 3.5, standoff 0.96, extent 0,-1.27 2.54,1.27
3D body: height 3.5, standoff 0.96, extent 2.54,-1.27 5.08,1.27
3D body: height 9.5, standoff 0, extent -6.731,-0.381 -5.969,0.381
3D body: height 0.64, standoff 0, extent -6.731,-2.667 -5.969,0.381
3D body: height 0.64, standoff 0, extent -4.191,-0.381 -3.429,2.667
3D body: height 9.5, standoff 0, extent -4.191,-0.381 -3.429,0.381
3D body: height 0.64, standoff 0, extent -1.651,-2.667 -0.889,0.381
3D body: height 9.5, standoff 0, extent -1.651,-0.381 -0.889,0.381
3D body: height 0.64, standoff 0, extent 0.889,-0.381 1.651,2.667
3D body: height 9.5, standoff 0, extent 0.889,-0.381 1.651,0.381
3D body: height 0.64, standoff 0, extent 3.429,-2.667 4.191,0.381
3D body: height 9.5, standoff 0, extent 3.429,-0.381 4.191,0.381
3D body: height 0.64, standoff 0, extent 5.969,-0.381 6.731,2.667
3D body: height 9.5, standoff 0, extent 5.969,-0.381 6.731,0.381

## PLTS40S [mm]
pads (40):
  rect 1.02x3.2 smd: 1(-49.53,-1.6) 2(-46.99,1.6) 3(-44.45,-1.6) 4(-41.91,1.6) 5(-39.37,-1.6) 6(-36.83,1.6) 7(-34.29,-1.6) 8(-31.75,1.6) 9(-29.21,-1.6) 10(-26.67,1.6) 11(-24.13,-1.6) 12(-21.59,1.6) 13(-19.05,-1.6) 14(-16.51,1.6) 15(-13.97,-1.6) 16(-11.43,1.6) 17(-8.89,-1.6) 18(-6.35,1.6) 19(-3.81,-1.6) 20(-1.27,1.6) 21(1.27,-1.6) 22(3.81,1.6) 23(6.35,-1.6) 24(8.89,1.6) 25(11.43,-1.6) 26(13.97,1.6) 27(16.51,-1.6) 28(19.05,1.6) 29(21.59,-1.6) 30(24.13,1.6) 31(26.67,-1.6) 32(29.21,1.6) 33(31.75,-1.6) 34(34.29,1.6) 35(36.83,-1.6) 36(39.37,1.6) 37(41.91,-1.6) 38(44.45,1.6) 39(46.99,-1.6) 40(49.53,1.6)
TopOverlay:
  lines w0.254: -50.927,-3.15 -50.927,3.2 ; -50.292,-5.969 -49.53,-5.207 ; -49.53,-7.747 -49.53,-5.207 ; -48.768,-5.969 -49.53,-5.207 ; 50.8,-3.175 50.8,3.048
  text "40" at 48.26,3.81 h1.52
  text "1" at -52.324,-4.064 h1.52
3D body: height 9.5, standoff 0, extent -27.051,-0.381 -26.289,0.381
3D body: height 0.64, standoff 0, extent -27.051,-0.381 -26.289,2.667
3D body: height 9.5, standoff 0, extent -21.971,-0.381 -21.209,0.381
3D body: height 0.64, standoff 0, extent -21.971,-0.381 -21.209,2.667
3D body: height 9.5, standoff 0, extent -16.891,-0.381 -16.129,0.381
3D body: height 0.64, standoff 0, extent -16.891,-0.381 -16.129,2.667
3D body: height 9.5, standoff 0, extent -11.811,-0.381 -11.049,0.381
3D body: height 0.64, standoff 0, extent -11.811,-0.381 -11.049,2.667
3D body: height 9.5, standoff 0, extent -6.731,-0.381 -5.969,0.381
3D body: height 0.64, standoff 0, extent -6.731,-0.381 -5.969,2.667
3D body: height 9.5, standoff 0, extent -1.651,-0.381 -0.889,0.381
3D body: height 0.64, standoff 0, extent -1.651,-0.381 -0.889,2.667
3D body: height 9.5, standoff 0, extent 3.429,-0.381 4.191,0.381
3D body: height 0.64, standoff 0, extent 3.429,-0.381 4.191,2.667
3D body: height 9.5, standoff 0, extent 8.509,-0.381 9.271,0.381
3D body: height 0.64, standoff 0, extent 8.509,-0.381 9.271,2.667
3D body: height 9.5, standoff 0, extent 13.589,-0.381 14.351,0.381
3D body: height 0.64, standoff 0, extent 13.589,-0.381 14.351,2.667
3D body: height 9.5, standoff 0, extent 18.669,-0.381 19.431,0.381
3D body: height 0.64, standoff 0, extent 18.669,-0.381 19.431,2.667
3D body: height 9.5, standoff 0, extent 23.749,-0.381 24.511,0.381
3D body: height 0.64, standoff 0, extent 23.749,-0.381 24.511,2.667
3D body: height 9.5, standoff 0, extent 28.829,-0.381 29.591,0.381
3D body: height 0.64, standoff 0, extent 28.829,-0.381 29.591,2.667
3D body: height 9.5, standoff 0, extent 33.909,-0.381 34.671,0.381
3D body: height 0.64, standoff 0, extent 33.909,-0.381 34.671,2.667
3D body: height 9.5, standoff 0, extent 38.989,-0.381 39.751,0.381
3D body: height 0.64, standoff 0, extent 38.989,-0.381 39.751,2.667
3D body: height 9.5, standoff 0, extent 44.069,-0.381 44.831,0.381
3D body: height 0.64, standoff 0, extent 44.069,-0.381 44.831,2.667
3D body: height 9.5, standoff 0, extent 49.149,-0.381 49.911,0.381
3D body: height 0.64, standoff 0, extent 49.149,-0.381 49.911,2.667
3D body: height 9.5, standoff 0, extent 46.609,-0.381 47.371,0.381
3D body: height 0.64, standoff 0, extent 46.609,-2.667 47.371,0.381
3D body: height 9.5, standoff 0, extent 41.529,-0.381 42.291,0.381
3D body: height 0.64, standoff 0, extent 41.529,-2.667 42.291,0.381
3D body: height 9.5, standoff 0, extent 36.449,-0.381 37.211,0.381
3D body: height 0.64, standoff 0, extent 36.449,-2.667 37.211,0.381
3D body: height 3.5, standoff 0.96, extent 48.26,-1.27 50.8,1.27
3D body: height 3.5, standoff 0.96, extent 45.72,-1.27 48.26,1.27
3D body: height 3.5, standoff 0.96, extent 43.18,-1.27 45.72,1.27
3D body: height 3.5, standoff 0.96, extent 40.64,-1.27 43.18,1.27
3D body: height 3.5, standoff 0.96, extent 38.1,-1.27 40.64,1.27
3D body: height 3.5, standoff 0.96, extent 35.56,-1.27 38.1,1.27
3D body: height 3.5, standoff 0.96, extent 33.02,-1.27 35.56,1.27
3D body: height 3.5, standoff 0.96, extent 30.48,-1.27 33.02,1.27
3D body: height 3.5, standoff 0.96, extent 27.94,-1.27 30.48,1.27
3D body: height 3.5, standoff 0.96, extent 25.4,-1.27 27.94,1.27
3D body: height 3.5, standoff 0.96, extent 22.86,-1.27 25.4,1.27
3D body: height 3.5, standoff 0.96, extent 20.32,-1.27 22.86,1.27
3D body: height 3.5, standoff 0.96, extent 17.78,-1.27 20.32,1.27
3D body: height 3.5, standoff 0.96, extent 15.24,-1.27 17.78,1.27
3D body: height 3.5, standoff 0.96, extent 12.7,-1.27 15.24,1.27
3D body: height 3.5, standoff 0.96, extent 10.16,-1.27 12.7,1.27
3D body: height 3.5, standoff 0.96, extent 7.62,-1.27 10.16,1.27
3D body: height 3.5, standoff 0.96, extent 5.08,-1.27 7.62,1.27
3D body: height 3.5, standoff 0.96, extent 2.54,-1.27 5.08,1.27
3D body: height 3.5, standoff 0.96, extent 0,-1.27 2.54,1.27
3D body: height 3.5, standoff 0.96, extent -2.54,-1.27 0,1.27
3D body: height 3.5, standoff 0.96, extent -5.08,-1.27 -2.54,1.27
3D body: height 3.5, standoff 0.96, extent -7.62,-1.27 -5.08,1.27
3D body: height 3.5, standoff 0.96, extent -10.16,-1.27 -7.62,1.27
3D body: height 3.5, standoff 0.96, extent -12.7,-1.27 -10.16,1.27
3D body: height 3.5, standoff 0.96, extent -15.24,-1.27 -12.7,1.27
3D body: height 3.5, standoff 0.96, extent -17.78,-1.27 -15.24,1.27
3D body: height 3.5, standoff 0.96, extent -20.32,-1.27 -17.78,1.27
3D body: height 3.5, standoff 0.96, extent -22.86,-1.27 -20.32,1.27
3D body: height 3.5, standoff 0.96, extent -25.4,-1.27 -22.86,1.27
3D body: height 3.5, standoff 0.96, extent -27.94,-1.27 -25.4,1.27
3D body: height 3.5, standoff 0.96, extent -30.48,-1.27 -27.94,1.27
3D body: height 3.5, standoff 0.96, extent -33.02,-1.27 -30.48,1.27
3D body: height 3.5, standoff 0.96, extent -35.56,-1.27 -33.02,1.27
3D body: height 3.5, standoff 0.96, extent -38.1,-1.27 -35.56,1.27
3D body: height 3.5, standoff 0.96, extent -50.8,-1.27 -48.26,1.27
3D body: height 3.5, standoff 0.96, extent -48.26,-1.27 -45.72,1.27
3D body: height 3.5, standoff 0.96, extent -45.72,-1.27 -43.18,1.27
3D body: height 3.5, standoff 0.96, extent -43.18,-1.27 -40.64,1.27
3D body: height 3.5, standoff 0.96, extent -40.64,-1.27 -38.1,1.27
3D body: height 9.5, standoff 0, extent -49.911,-0.381 -49.149,0.381
3D body: height 0.64, standoff 0, extent -49.911,-2.667 -49.149,0.381
3D body: height 0.64, standoff 0, extent -47.371,-0.381 -46.609,2.667
3D body: height 9.5, standoff 0, extent -47.371,-0.381 -46.609,0.381
3D body: height 0.64, standoff 0, extent -44.831,-2.667 -44.069,0.381
3D body: height 9.5, standoff 0, extent -44.831,-0.381 -44.069,0.381
3D body: height 0.64, standoff 0, extent -42.291,-0.381 -41.529,2.667
3D body: height 9.5, standoff 0, extent -42.291,-0.381 -41.529,0.381
3D body: height 0.64, standoff 0, extent -39.751,-2.667 -38.989,0.381
3D body: height 9.5, standoff 0, extent -39.751,-0.381 -38.989,0.381
3D body: height 0.64, standoff 0, extent -37.211,-0.381 -36.449,2.667
3D body: height 9.5, standoff 0, extent -37.211,-0.381 -36.449,0.381
3D body: height 0.64, standoff 0, extent -34.671,-2.667 -33.909,0.381
3D body: height 9.5, standoff 0, extent -34.671,-0.381 -33.909,0.381
3D body: height 0.64, standoff 0, extent -32.131,-0.381 -31.369,2.667
3D body: height 9.5, standoff 0, extent -32.131,-0.381 -31.369,0.381
3D body: height 0.64, standoff 0, extent -29.591,-2.667 -28.829,0.381
3D body: height 9.5, standoff 0, extent -29.591,-0.381 -28.829,0.381
3D body: height 0.64, standoff 0, extent -24.511,-2.667 -23.749,0.381
3D body: height 9.5, standoff 0, extent -24.511,-0.381 -23.749,0.381
3D body: height 0.64, standoff 0, extent -19.431,-2.667 -18.669,0.381
3D body: height 9.5, standoff 0, extent -19.431,-0.381 -18.669,0.381
3D body: height 0.64, standoff 0, extent -14.351,-2.667 -13.589,0.381
3D body: height 9.5, standoff 0, extent -14.351,-0.381 -13.589,0.381
3D body: height 0.64, standoff 0, extent -9.271,-2.667 -8.509,0.381
3D body: height 9.5, standoff 0, extent -9.271,-0.381 -8.509,0.381
3D body: height 0.64, standoff 0, extent -4.191,-2.667 -3.429,0.381
3D body: height 9.5, standoff 0, extent -4.191,-0.381 -3.429,0.381
3D body: height 0.64, standoff 0, extent 0.889,-2.667 1.651,0.381
3D body: height 9.5, standoff 0, extent 0.889,-0.381 1.651,0.381
3D body: height 0.64, standoff 0, extent 5.969,-2.667 6.731,0.381
3D body: height 9.5, standoff 0, extent 5.969,-0.381 6.731,0.381
3D body: height 0.64, standoff 0, extent 11.049,-2.667 11.811,0.381
3D body: height 9.5, standoff 0, extent 11.049,-0.381 11.811,0.381
3D body: height 0.64, standoff 0, extent 16.129,-2.667 16.891,0.381
3D body: height 9.5, standoff 0, extent 16.129,-0.381 16.891,0.381
3D body: height 0.64, standoff 0, extent 21.209,-2.667 21.971,0.381
3D body: height 9.5, standoff 0, extent 21.209,-0.381 21.971,0.381
3D body: height 0.64, standoff 0, extent 26.289,-2.667 27.051,0.381
3D body: height 9.5, standoff 0, extent 26.289,-0.381 27.051,0.381
3D body: height 0.64, standoff 0, extent 31.369,-2.667 32.131,0.381
3D body: height 9.5, standoff 0, extent 31.369,-0.381 32.131,0.381